# EAGLE library part ITSYBITSY (library MMC Eagle)
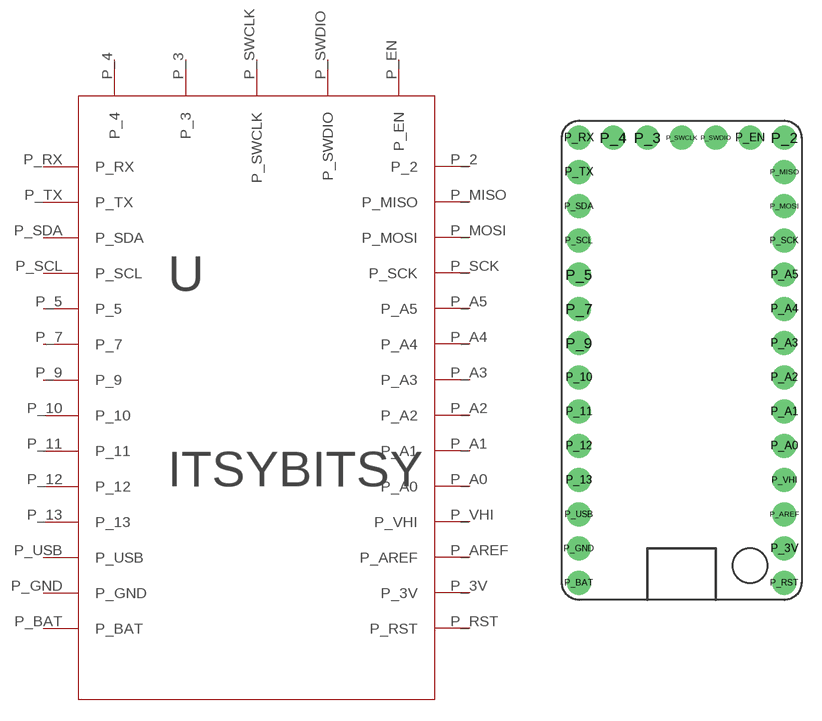
[diagram p2: symbol with the pads of ITSYBITSY; footprint ITSYBITSY]

Designator prefix -

## ITSYBITSY  [ITSYBITSY]
P_2  P_2
P_3  P_3
P_3V  P_3V
P_4  P_4
P_5  P_5
P_7  P_7
P_9  P_9
P_10  P_10
P_11  P_11
P_12  P_12
P_13  P_13
P_A0  P_A0
P_A1  P_A1
P_A2  P_A2
P_A3  P_A3
P_A4  P_A4
P_A5  P_A5
P_AREF  P_AREF
P_BAT  P_BAT
P_EN  P_EN
P_GND  P_GND
P_MISO  P_MISO
P_MOSI  P_MOSI
P_RST  P_RST
P_RX  P_RX
P_SCK  P_SCK
P_SCL  P_SCL
P_SDA  P_SDA
P_SWCLK  P_SWCLK
P_SWDIO  P_SWDIO
P_TX  P_TX
P_USB  P_USB
P_VHI  P_VHI

## Footprint ITSYBITSY (pad centres in mm)
drill 1 pad 1.778: P_2 7.62,16.51; P_3 -2.54,16.51; P_3V 7.62,-13.97; P_4 -5.08,16.51; P_5 -7.62,6.35; P_7 -7.62,3.81; P_9 -7.62,1.27; P_10 -7.62,-1.27; P_11 -7.62,-3.81; P_12 -7.62,-6.35; P_13 -7.62,-8.89; P_A0 7.62,-6.35; P_A1 7.62,-3.81; P_A2 7.62,-1.27; P_A3 7.62,1.27; P_A4 7.62,3.81; P_A5 7.62,6.35; P_AREF 7.62,-11.43; P_BAT -7.62,-16.51; P_EN 5.08,16.51; P_GND -7.62,-13.97; P_MISO 7.62,13.97; P_MOSI 7.62,11.43; P_RST 7.62,-16.51; P_RX -7.62,16.51; P_SCK 7.62,8.89; P_SCL -7.62,8.89; P_SDA -7.62,11.43; P_SWCLK 0,16.51; P_SWDIO 2.54,16.51; P_TX -7.62,13.97; P_USB -7.62,-11.43; P_VHI 7.62,-8.89